# EAGLE library part WIRL-POSI_2614021137000 (library WE_WIRL_Rev13.0)
Erinome-II GNSS Module - BeiDou, Galileo, GPS, GLONASS. WIRL-POSI GNSS Module - RF Pad connection to external antenna Details see: https://we-online.de/katalog/en/article/2614011137000/
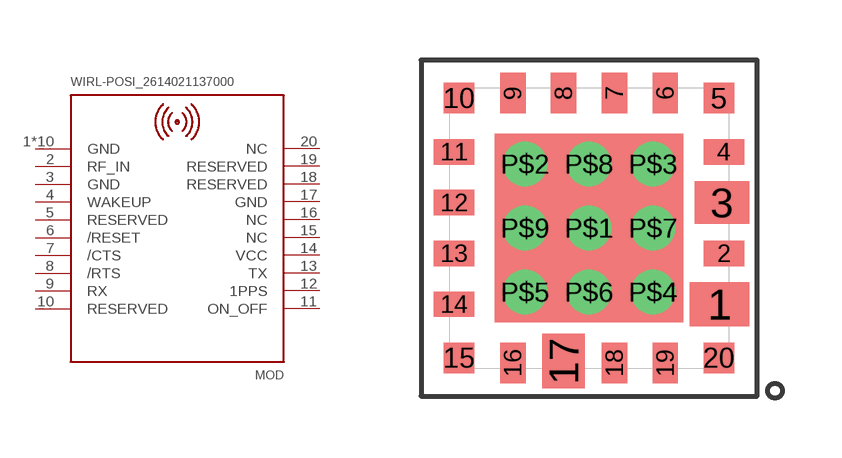
[diagram p30: symbol with the pads of WIRL-POSI_2614021137000; footprint WIRL-POSI_2614021137000]

Designator prefix MOD

## WIRL-POSI_2614021137000 (HEIGHT: 1.6mm; MANUFACTURER: Würth Elektronik; NR: 2614021137000)  [WIRL-POSI_2614021137000]
1  GND
2  RF_IN
3  GND
4  WAKEUP
5  RESERVED
6  /RESET
7  /CTS
8  /RTS
9  RX
10  RESERVED
11  ON_OFF
12  1PPS
13  TX
14  VCC
15  NC
16  NC
17  GND
18  RESERVED
19  RESERVED
20  NC
P$1  GND
P$2  GND
P$3  GND
P$4  GND
P$5  GND
P$6  GND
P$7  GND
P$8  GND
P$9  GND

## Footprint WIRL-POSI_2614021137000 (pad centres in mm)
Erinome-II GNSS Module - BeiDou, Galileo, GPS, GLONASS. WIRL-POSI GNSS Module - RF Pad connection to external antenna
smd 1.485 x 1.11: 1 3.264,-1.905
smd 1.016 x 0.635: 2 3.373,-0.635; 4 3.373,1.905; 11 -3.373,1.905; 12 -3.373,0.635; 13 -3.373,-0.635; 14 -3.373,-1.905
smd 1.36 x 1.06: 3 3.323,0.635
smd 0.762 x 0.762: 5 3.246,3.246; 10 -3.246,3.246; 15 -3.246,-3.246; 20 3.246,-3.246
smd 0.635 x 1.016: 6 1.905,3.373; 7 0.635,3.373; 8 -0.635,3.373; 9 -1.905,3.373; 16 -1.905,-3.373; 18 0.635,-3.373; 19 1.905,-3.373
smd 1.06 x 1.36: 17 -0.635,-3.323
drill 0.6: P$1 0,0; P$2 -1.6,1.6; P$3 1.6,1.6; P$4 1.6,-1.6; P$5 -1.6,-1.6; P$6 0,-1.6; P$7 1.6,0; P$8 0,1.6; P$9 -1.6,0